# Altium schematic symbol library ICs.SchLib: 239 symbols (part 3 of 4)
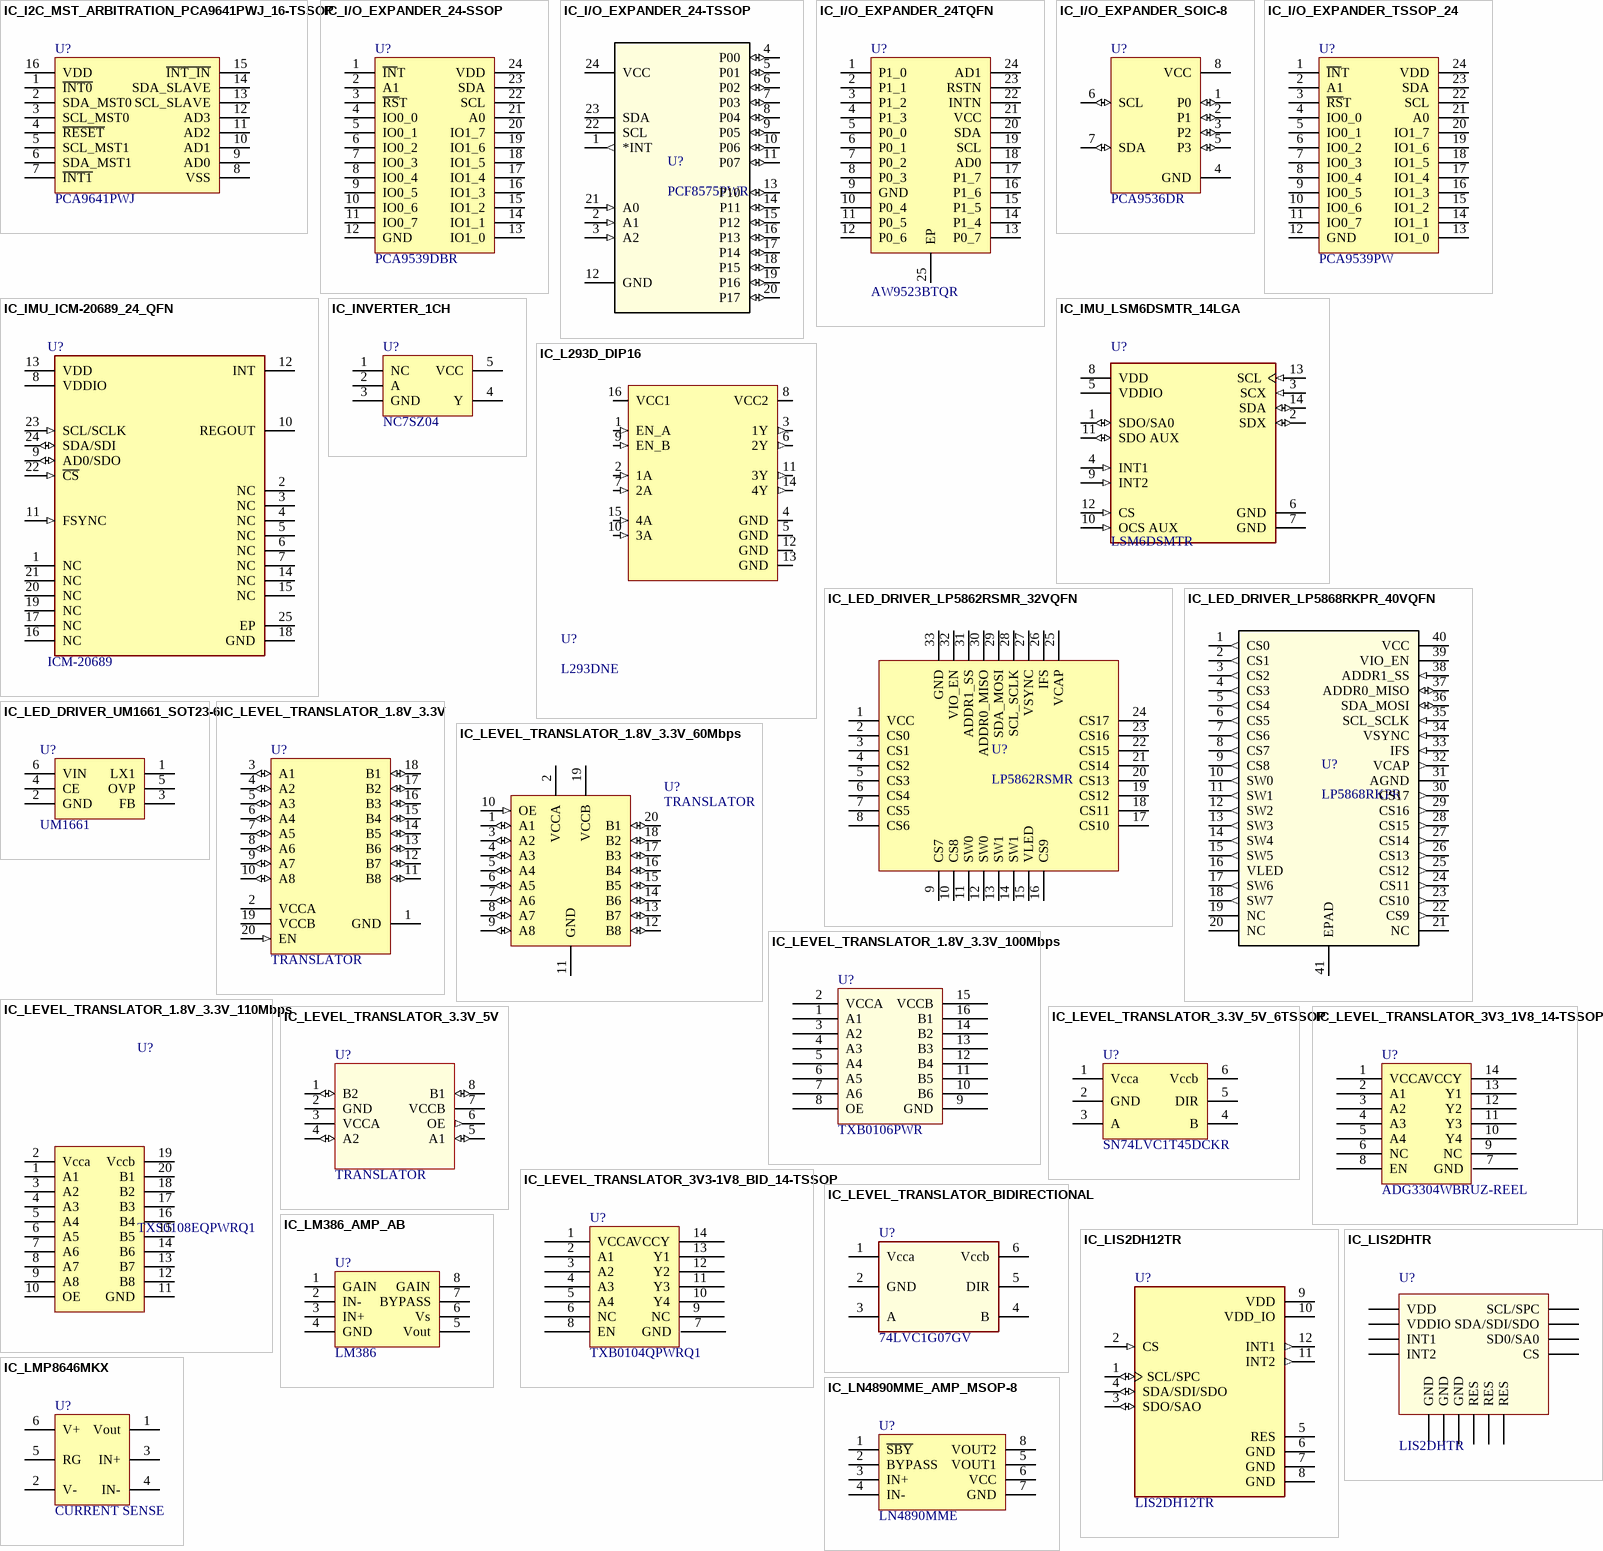
[diagram p11: symbols IC_I2C_MST_ARBITRATION_PCA9641PWJ_16-TSSOP to IC_LN4890MME_AMP_MSOP-8]

## IC_LEVEL_TRANSLATOR_1.8V_3.3V
designator U?, comment TRANSLATOR
IC TRNSLTR BIDIRECTIONAL 20TSSOP; Manufacturer: NXP USA Inc.; Manufacturer Part Number: NVT2008PW,118; Supplier 1: Digi-Key; Supplier Part Number 1: 568-5297-1-ND; Reel Stock: N/A; Last modified by: J.Jaramillo; Last modified date: 20240310; ComponentLink1Description: Digi-Key; ComponentLink1URL: https://www.digikey.com/products/en?keywords=568-5297-1-ND
footprint TSSOP_20_4.40MM (20210806/J-E.Pachon)
pins: 1 GND (power) "Ground", 2 VCCA (power) "low-voltage side reference supply  voltage for An", 3 A1 (io) "Input/output 1. Referenced to VCCA.", 4 A2 (io) "Input/output 2. Referenced to VCCA.", 5 A3 (io) "Input/output 3. Referenced to VCCA.", 6 A4 (io) "Input/output 4. Referenced to VCCA.", 7 A5 (io) "Input/output 5. Referenced to VCCA.", 8 A6 (io) "Input/output 6. Referenced to VCCA.", 9 A7 (io) "Input/output 7. Referenced to VCCA.", 10 A8 (io) "Input/output 8. Referenced to VCCA.", 11 B8 (io) "Input/output 8. Referenced to VCCB.", 12 B7 (io) "Input/output 7. Referenced to VCCB.", 13 B6 (io) "Input/output 6. Referenced to VCCB.", 14 B5 (io) "Input/output 5. Referenced to VCCB.", 15 B4 (io) "Input/output 4. Referenced to VCCB.", 16 B3 (io) "Input/output 3. Referenced to VCCB.", 17 B2 (io) "Input/output 2. Referenced to VCCB.", 18 B1 (io) "Input/output 1. Referenced to VCCB.", 19 VCCB (power) "high-voltage side reference  supply voltage for Bn", 20 EN (in) "switch enable input; connect to  VREFB and pull-up through a  high resistor"

## IC_LEVEL_TRANSLATOR_1.8V_3.3V_60Mbps
designator U?, comment TRANSLATOR
IC TRNSLTR BIDIRECTIONAL 20TSSOP; Manufacturer: Texas Instruments; Manufacturer Part Number: TXS0108EPWR; Supplier 1: Digi-Key; Supplier Part Number 1: 296-23011-1-ND; Reel Stock: N/A; Last modified by: J.Jaramillo; Last modified date: 20240310; ComponentLink1Description: Digi-Key; ComponentLink1URL: https://www.digikey.com/product-detail/en/texas-instruments/TXS0108EPWR/296-23011-1-ND/1775304
footprint TSSOP_20_4.40MM (20210806/J-E.Pachon)
pins: 1 A1 (io) "Input/output 1. Referenced to VCCA.", 2 VCCA (power) "A-port supply voltage. 1.1 V =< VCCA =< 3.6 V, VCCA =< VCCB.", 3 A2 (io) "Input/output 2. Referenced to VCCA.", 4 A3 (io) "Input/output 3. Referenced to VCCA.", 5 A4 (io) "Input/output 4. Referenced to VCCA.", 6 A5 (io) "Input/output 5. Referenced to VCCA.", 7 A6 (io) "Input/output 6. Referenced to VCCA.", 8 A7 (io) "Input/output 7. Referenced to VCCA.", 9 A8 (io) "Input/output 8. Referenced to VCCA.", 10 OE (in) "Output enable. Pull OE low to place all outputs in 3-state mode. Referenced to VCCA.", 11 GND (power) "Ground", 12 B8 (io) "Input/output 8. Referenced to VCCB.", 13 B7 (io) "Input/output 7. Referenced to VCCB.", 14 B6 (io) "Input/output 6. Referenced to VCCB.", 15 B5 (io) "Input/output 5. Referenced to VCCB.", 16 B4 (io) "Input/output 4. Referenced to VCCB.", 17 B3 (io) "Input/output 3. Referenced to VCCB.", 18 B2 (io) "Input/output 2. Referenced to VCCB.", 19 VCCB (power) "B-port supply voltage. 1.65 V =< VCCB =< 5.5 V.", 20 B1 (io) "Input/output 1. Referenced to VCCB."

## IC_LEVEL_TRANSLATOR_1.8V_3.3V_100Mbps
designator U?, comment TXB0106PWR
IC TRANSLATOR BIDIR 16TSSOP; Manufacturer: Texas Instruments; Manufacturer Part Number: TXB0106PWR; Supplier 1: Digi-Key; Supplier Part Number 1: 296-23759-1-ND; Reel Stock: N/A; Last modified by: J.Jaramillo; Last modified date: 20240310; ComponentLink1Description: Digi-Key; ComponentLink1URL: https://www.digikey.com/products/en?keywords=296-23759-1-ND
footprint TSSOP_16_4.40MM (/ 20190923 / C-D Viveros)
pins: 1 A1, 2 VCCA, 3 A2, 4 A3, 5 A4, 6 A5, 7 A6, 8 OE, 9 GND, 10 B6, 11 B5, 12 B4, 13 B3, 14 B2, 15 VCCB, 16 B1

## IC_LEVEL_TRANSLATOR_1.8V_3.3V_110Mbps
designator U?, comment TXS0108EQPWRQ1
IC TRANSLATOR BIDIR 20TSSOP; Manufacturer: Texas Instruments; Manufacturer Part Number: TXS0108EQPWRQ1; Supplier 1: Digi-Key; Supplier Part Number 1: 296-42401-1-ND; Reel Stock: N/A; Last modified by: J.Jaramillo; Last modified date: 20240310; ComponentLink1Description: Digi-Key; ComponentLink1URL: https://www.digikey.com/products/en?keywords=296-42401-1-ND
footprint TSSOP_20_4.40MM (20210806/J-E.Pachon)
pins: 1 A1, 2 Vcca, 3 A2, 4 A3, 5 A4, 6 A5, 7 A6, 8 A7, 9 A8, 10 OE, 11 GND, 12 B8, 13 B7, 14 B6, 15 B5, 16 B4, 17 B3, 18 B2, 19 Vccb, 20 B1

## IC_LEVEL_TRANSLATOR_3.3V_5V
designator U?, comment TRANSLATOR
IC TRNSLTR BIDIRECTIONAL US8; Manufacturer: Texas Instruments; Manufacturer Part Number: TXS0102DCUR; Supplier 1: Digi-Key; Supplier Part Number 1: 296-21931-1-ND; Reel Stock: N/A; Last modified by: J.Jaramillo; Last modified date: 20240310; ComponentLink1Description: Digi-Key; ComponentLink1URL: https://www.digikey.com/product-detail/en/texas-instruments/TXS0102DCUR/296-21931-1-ND/1629284
footprint VFSOP_8_2.30mm
pins: 1 B2 (io), 2 GND (power), 3 VCCA (power), 4 A2 (io), 5 A1 (io), 6 OE (out), 7 VCCB (power), 8 B1 (io)

## IC_LEVEL_TRANSLATOR_3.3V_5V_6TSSOP
designator U?, comment SN74LVC1T45DCKR
IC TRNSLTR BIDIRECTIONAL SC70-6; Manufacturer: Texas Instruments; Manufacturer Part Number: SN74LVC1T45DCKR; Supplier 1: Digi-Key; Supplier Part Number 1: 296-16844-1-ND; Reel Stock: N/A; Last modified by: J.Jaramillo; Last modified date: 20240310; ComponentLink1Description: Digi-Key; ComponentLink1URL: https://www.digikey.com/products/en?keywords=296-16844-1-ND
footprint SOT_ 363 (TSSOP-6, SC-88, SOT-363 / 20190225 / C-A.Serna.A)
pins: 1 Vcca, 2 GND, 3 A, 4 B, 5 DIR, 6 Vccb

## IC_LEVEL_TRANSLATOR_3V3-1V8_BID_14-TSSOP
designator U?, comment TXB0104QPWRQ1
IC TRNSLTR BIDIRECTIONAL 14TSSOP; Manufacturer: Texas Instruments; Manufacturer Part Number: TXB0104QPWRQ1; Supplier 1: Digi-Key; Supplier Part Number 1: 296-27760-1-ND; Reel Stock: N/A; Last modified by: J.Jaramillo; Last modified date: 20240310; ComponentLink1Description: Digi-Key; ComponentLink1URL: https://www.digikey.com/en/products/detail/texas-instruments/TXB0104QPWRQ1/2232941?s=N4IgTCBcDa4JwDYC0YDsqEAYkEYkDkAREAXQF8g
footprint TSSOP_14_4X4MM (/ 20210809 / C-A.Serna.A)
pins: 1 VCCA, 2 A1, 3 A2, 4 A3, 5 A4, 6 NC, 7 GND, 8 EN, 9 NC, 10 Y4, 11 Y3, 12 Y2, 13 Y1, 14 VCCY

## IC_LEVEL_TRANSLATOR_3V3_1V8_14-TSSOP
designator U?, comment ADG3304WBRUZ-REEL
IC TRNSLTR BIDIRECTIONAL 14TSSOP; Manufacturer: Analog Devices Inc.; Manufacturer Part Number: ADG3304WBRUZ-REEL; Supplier 1: Digi-Key; Supplier Part Number 1: 505-ADG3304WBRUZ-REELCT-ND; Reel Stock: N/A; Last modified by: J.Jaramillo; Last modified date: 20240310; ComponentLink1Description: Digi-Key; ComponentLink1URL: https://www.digikey.com/en/products/detail/analog-devices-inc/ADG3304WBRUZ-REEL/5887073?s=N4IgTCBcDaIIIBEDiBmFAGALAdQEICUBVALQFp8BRCgGRAF0BfIA
footprint TSSOP_14_4X4MM (/ 20210809 / C-A.Serna.A)
pins: 1 VCCA, 2 A1, 3 A2, 4 A3, 5 A4, 6 NC, 7 GND, 8 EN, 9 NC, 10 Y4, 11 Y3, 12 Y2, 13 Y1, 14 VCCY

## IC_LEVEL_TRANSLATOR_BIDIRECTIONAL
designator U?, comment 74LVC1G07GV
IC BUFFER NON-INVERT 5.5V 5TSOP; Manufacturer: Nexperia USA Inc.; Manufacturer Part Number: 74LVC1T45GW,125; Supplier 1: Digi-Key; Supplier Part Number 1: 1727-4560-1-ND; Reel Stock: N/A; Last modified by: J.Jaramillo; Last modified date: 20240310; ComponentLink1Description: Digi-Key; ComponentLink1URL: https://www.digikey.com/product-detail/en/nexperia-usa-inc/74LVC1T45GW-125/1727-4560-1-ND/2530939
footprint SOT_ 363 (TSSOP-6, SC-88, SOT-363 / 20190225 / C-A.Serna.A)
pins: 1 Vcca, 2 GND, 3 A, 4 B, 5 DIR, 6 Vccb

## IC_LIS2DH12TR
designator U?, comment LIS2DH12TR
ACCEL 2-16G I2C/SPI 12LGA; Manufacturer: STMicroelectronics; Manufacturer Part Number: LIS2DH12TR; Supplier 1: Digikey; Supplier Part Number 1: 497-14851-1-ND; Reel Stock: N/A; Last modified by: J.Jaramillo; Last modified date: 20240310; ComponentLink1Description: Digikey; ComponentLink1URL: https://www.digikey.com/en/products/detail/stmicroelectronics/LIS2DH12TR/4899892
footprint 12LGA_2X2MM (/20210319/J-E.Pachon)
pins: 1 SCL/SPC (io), 2 CS (in), 3 SDO/SAO (io), 4 SDA/SDI/SDO (io), 5 RES (power), 6 GND (power), 7 GND (power), 8 GND (power), 9 VDD (power), 10 VDD_IO (power), 11 INT2 (out), 12 INT1 (out)

## IC_LIS2DHTR
designator U?, comment LIS2DHTR
ACCEL 2-16G I2C/SPI 14LGA; Manufacturer: STMicroelectronics; Manufacturer Part Number: LIS2DHTR; Supplier 1: Digikey; Supplier Part Number 1: 497-13795-1-ND; Reel Stock: N/A; Last modified by: J.Jaramillo; Last modified date: 20240310; ComponentLink1Description: Digikey; ComponentLink1URL: https://www.digikey.com/en/products/detail/stmicroelectronics/LIS2DHTR/3945920?s=N4IgTCBcDaICwE4DsBaAjAZiQgrOlAcgCIgC6AvkA
footprint 14LGA_2X2MM (/20210809/J-E.Pachon)
pins: 1 SCL/SPC, 2 SDA/SDI/SDO, 3 SD0/SA0, 4 CS, 5 INT2, 6 INT1, 7 VDDIO, 8 VDD, 9 GND, 10 GND, 11 GND, 12 RES, 13 RES, 14 RES

## IC_LM386_AMP_AB
designator U?, comment LM386
IC AMP CLASS AB MONO 325MW 8SOIC; Manufacturer: Texas Instruments; Manufacturer Part Number: LM386MX-1/NOPB; Supplier 1: Digi-Key; Supplier Part Number 1: LM386MX-1/NOPBCT-ND; Reel Stock: N/A; Last modified by: J.Jaramillo; Last modified date: 20240310; ComponentLink1Description: Digi-Key; ComponentLink1URL: https://www.digikey.com/products/en?keywords=LM386MX-1%2FNOPBCT-ND
footprint SOIC_8_3.9mm (/ 20190225 / C-A.Serna.A)
pins: 1 GAIN, 2 IN-, 3 IN+, 4 GND, 5 Vout, 6 Vs, 7 BYPASS, 8 GAIN

## IC_LMP8646MKX
designator U?, comment CURRENT SENSE
IC CURR SENSE 1 CIRCUIT TSOT23-6; Manufacturer: Texas Instruments; Manufacturer Part Number: LMP8646MKX/NOPB; Supplier 1: Digi-Key; Supplier Part Number 1: 296-37396-1-ND; Reel Stock: N/A; Last modified by: J.Jaramillo; Last modified date: 20240310; ComponentLink1Description: Digi-Key; ComponentLink1URL: https://www.digikey.com/product-detail/en/texas-instruments/LMP8646MKX-NOPB/296-37396-1-ND/4758847
footprint SOT_23_6 (/ 20190225 / C-A.Serna.A)
pins: 1 Vout, 2 V-, 3 IN+, 4 IN-, 5 RG, 6 V+

## IC_LN4890MME_AMP_MSOP-8
designator U?, comment LN4890MME
1 1Wx1@8Ω Class AB MSOP-8 Audio Power OpAmps ROHS /; Manufacturer: Natlinear; Manufacturer Part Number: LN4890MME-G; Supplier 1: LCSC; Supplier Part Number 1: C236383; Reel Stock: N/A; Last modified by: J.Jaramillo; Last modified date: 20240310; ComponentLink1Description: LCSC; ComponentLink1URL: https://www.lcsc.com/product-detail/Audio-Power-OpAmps_NATLINEAR-LN4890MME-G_C236383.html
footprint MINISO-8_5.1X4MM (MSOP8/20210809/N-A.Potosi)
pins: 1 ~{SBY}, 2 BYPASS, 3 IN+, 4 IN-, 5 VOUT1, 6 VCC, 7 GND, 8 VOUT2

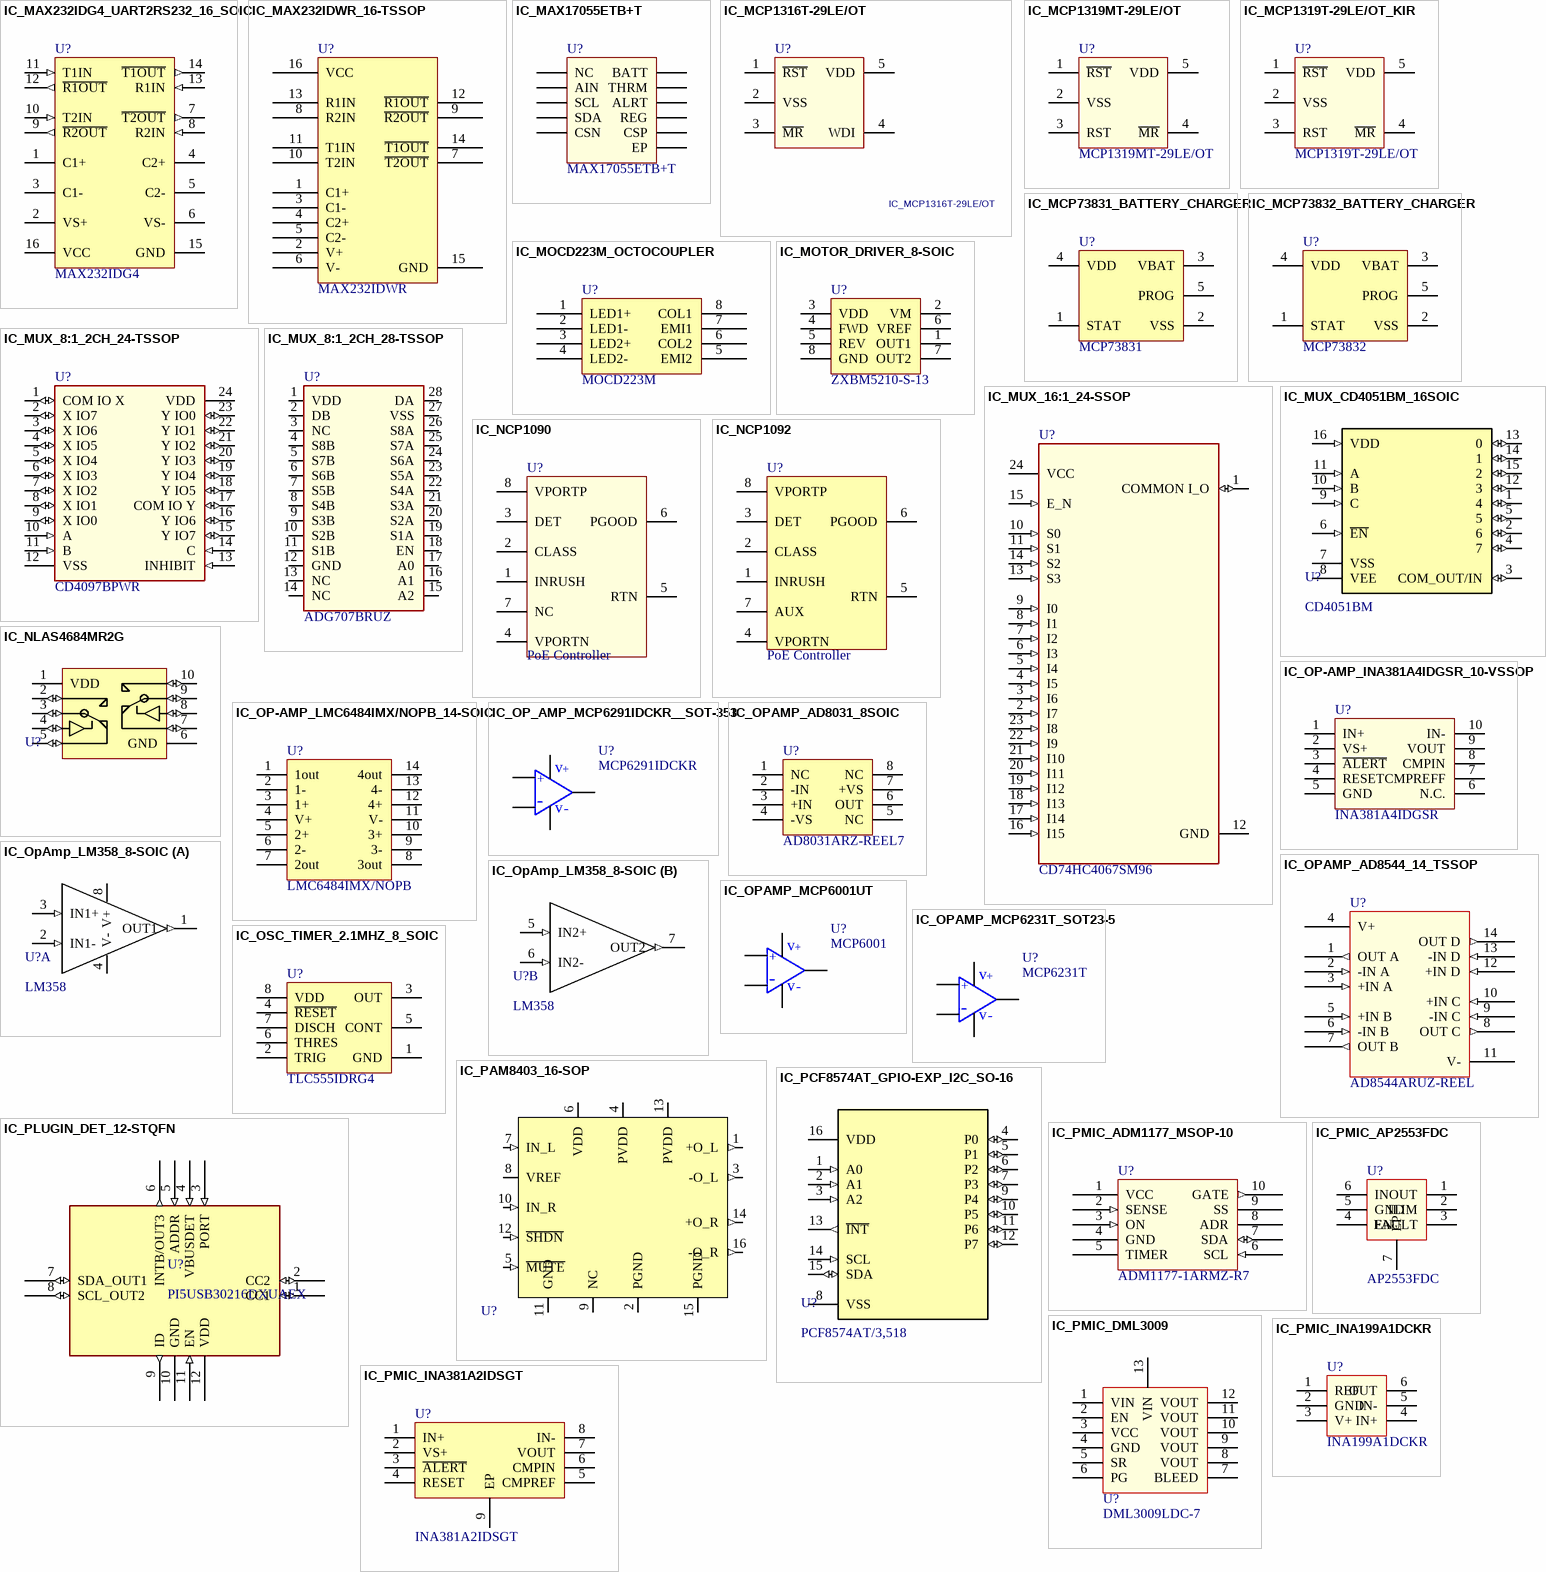
[diagram p5: symbols IC_MAX232IDG4_UART2RS232_16_SOIC to IC_PMIC_INA381A2IDSGT]

## IC_MAX232IDG4_UART2RS232_16_SOIC
designator U?, comment MAX232IDG4
MAX232 DUAL EIA-232 DRIVER AND R; Manufacturer: Texas Instruments; Manufacturer Part Number: MAX232IDG4; Supplier 1: Digi-Key; Supplier Part Number 1: 2156-MAX232IDG4-ND; Reel Stock: N/A; Last modified by: J.Jaramillo; Last modified date: 20240310; ComponentLink1Description: Digi-Key; ComponentLink1URL: https://www.digikey.com/en/products/detail/texas-instruments/MAX232IDG4/13486322
footprint SOIC_16_3.9MM (/20201210/M-C.Calderon)
pins: 1 C1+, 2 VS+ (power), 3 C1-, 4 C2+, 5 C2-, 6 VS- (power), 7 ~{T2OUT} (out), 8 R2IN (in), 9 ~{R2OUT} (out), 10 T2IN (in), 11 T1IN (in), 12 ~{R1OUT} (out), 13 R1IN (in), 14 ~{T1OUT} (out), 15 GND (power), 16 VCC (power)

## IC_MAX232IDWR_16-TSSOP
designator U?, comment MAX232IDWR
IC TRANSCEIVER FULL 2/2 16SOIC; Manufacturer: Texas Instruments; Manufacturer Part Number: MAX232IDWR; Supplier 1: Digi-Key; Supplier Part Number 1: 296-14621-1-ND; Reel Stock: N/A; Last modified by: J.Jaramillo; Last modified date: 20240310; ComponentLink1Description: Links; ComponentLink1URL: https://www.digikey.com/en/products/detail/texas-instruments/MAX232IDWR/555692
footprint TSSOP_16_4.40MM (/ 20190923 / C-D Viveros)
pins: 1 C1+, 2 V+, 3 C1-, 4 C2+, 5 C2-, 6 V-, 7 ~{T2OUT}, 8 R2IN, 9 ~{R2OUT}, 10 T2IN, 11 T1IN, 12 ~{R1OUT}, 13 R1IN, 14 ~{T1OUT}, 15 GND, 16 VCC

## IC_MAX17055ETB+T
designator U?, comment MAX17055ETB+T
IC FUEL GAUGE MODELGAUGE 10TDFN; Manufacturer: Maxim Integrated; Manufacturer Part Number: MAX17055ETB+T; Supplier 1: Digi-Key; Supplier Part Number 1: MAX17055ETB+TCT-ND; Reel Stock: N/A; Last modified by: J.Jaramillo; Last modified date: 20240310; ComponentLink1Description: Digikey; ComponentLink1URL: https://www.digikey.com/product-detail/en/maxim-integrated/MAX17055ETB-T/MAX17055ETB-TCT-ND/7200800
footprint TDFN-10_2.5X2.0MM_EP (10-TDFN/20201001/J-E.Pachon)
pins: 1 NC, 2 AIN, 3 SCL, 4 SDA, 5 CSN, 6 CSP, 7 REG, 8 ALRT, 9 THRM, 10 BATT, 11 EP

## IC_MCP1316T-29LE/OT
designator U?
IC SUPERVISOR 2.9V SOT23-5; Manufacturer: Microchip Technology; Supplier Part Number 1: MCP1316T-29LE/OTCT-ND; Manufacturer Part Number: MCP1316T-29LE/OT; Supplier 1: Digi-key; ComponentLink1URL: https://www.digikey.com/product-detail/en/microchip-technology/MCP1316T-29LE-OT/MCP1316T-29LE-OTCT-ND/1979879; ComponentLink1Description: Digi-key; ComponentLink1URL: https://www.digikey.com/products/en?keywords=MCP1316T-29LE%2FOTCT-ND; Last modified date: 20240310; Last modified by: J.Jaramillo; Reel Stock: N/A
footprint SOT_753 (SOT-23-5, SC-74A / 20190225 / C-A.Serna.A)
pins: 1 ~{RST}, 2 VSS, 3 ~{MR}, 4 WDI, 5 VDD

## IC_MCP1319MT-29LE/OT
designator U?, comment MCP1319MT-29LE/OT
IC SUPERVISOR 1 CHANNEL SOT23-5; Manufacturer: Microchip Technology; Manufacturer Part Number: MCP1319MT-29LE/OT; Supplier 1: Digi-Key; Supplier Part Number 1: MCP1319MT-29LE/OTCT-ND; Reel Stock: N/A; Last modified by: J.Jaramillo; Last modified date: 20240310; ComponentLink1Description: Digi-Key; ComponentLink1URL: https://www.digikey.com/en/products/detail/microchip-technology/MCP1319MT-29LE-OT/964270
footprint SOT_753 (SOT-23-5, SC-74A / 20190225 / C-A.Serna.A)
pins: 1 ~{RST}, 2 VSS, 3 RST, 4 ~{MR}, 5 VDD

## IC_MCP1319T-29LE/OT_KIR
designator U?, comment MCP1319T-29LE/OT
IC SUPERVISOR 2.9V SOT23-5; Manufacturer: Microchip Technology; Manufacturer Part Number: MCP1319T-29LE/OT; Supplier 1: Digi-Key; Supplier Part Number 1: MCP1319T-29LE/OTCT-ND; Reel Stock: N/A; Last modified by: J.Jaramillo; Last modified date: 20240310; ComponentLink1Description: Digi-Key; ComponentLink1URL: https://www.digikey.com/product-detail/en/microchip-technology/MCP1319T-29LE-OT/MCP1319T-29LE-OTCT-ND/8345669
footprint SOT_753 (SOT-23-5, SC-74A / 20190225 / C-A.Serna.A)
pins: 1 ~{RST}, 2 VSS, 3 RST, 4 ~{MR}, 5 VDD

## IC_MCP73831_BATTERY_CHARGER
designator U?, comment MCP73831
IC CONTROLLR LI-ION 4.2V SOT23-5; Manufacturer: Microchip Technology; Manufacturer Part Number: MCP73831T-2ACI/OT; Supplier 1: Digi-Key; Supplier Part Number 1: MCP73831T-2ACI/OTCT-ND; Reel Stock: N/A; Last modified by: J.Jaramillo; Last modified date: 20240310; ComponentLink1Description: Digi-Key; ComponentLink1URL: https://www.digikey.com/product-detail/en/microchip-technology/MCP73831T-2ACI-OT/MCP73831T-2ACI-OTCT-ND/1979802
footprint SOT_753 (SOT-23-5, SC-74A / 20190225 / C-A.Serna.A)
pins: 1 STAT, 2 VSS, 3 VBAT, 4 VDD, 5 PROG

## IC_MCP73832_BATTERY_CHARGER
designator U?, comment MCP73832
IC LI-ION/LI-POLY CTRLR SOT23-5; Manufacturer: Microchip Technology; Manufacturer Part Number: MCP73832T-2ACI/OT; Supplier 1: Digi-Key; Supplier Part Number 1: MCP73832T-2ACI/OTCT-ND; Reel Stock: N/A; Last modified by: J.Jaramillo; Last modified date: 20240310; ComponentLink1Description: Digi-Key; ComponentLink1URL: https://www.digikey.com/product-detail/en/microchip-technology/MCP73832T-2ACI-OT/MCP73832T-2ACI-OTCT-ND/1979805
footprint SOT_753 (SOT-23-5, SC-74A / 20190225 / C-A.Serna.A)
pins: 1 STAT, 2 VSS, 3 VBAT, 4 VDD, 5 PROG

## IC_MOCD223M_OCTOCOUPLER
designator U?, comment MOCD223M
OPTOISOLTR 2.5KV 2CH DARL 8SOIC; Manufacturer: onsemi; Manufacturer Part Number: MOCD223M; Supplier 1: Digi-Key; Supplier Part Number 1: MOCD223M-ND; Reel Stock: N/A; Last modified by: J.Jaramillo; Last modified date: 20240310; ComponentLink1Description: Digi-Key; ComponentLink1URL: https://www.digikey.com/en/products/detail/onsemi/MOCD223M/281252?s=N4IgTCBcDaILIHkDCARMYDMcC0A5FIAugL5A
footprint SOIC_8_3.9mm (/ 20190225 / C-A.Serna.A)
pins: 1 LED1+, 2 LED1-, 3 LED2+, 4 LED2-, 5 EMI2, 6 COL2, 7 EMI1, 8 COL1

## IC_MOTOR_DRIVER_8-SOIC
designator U?, comment ZXBM5210-S-13
IC MOTOR DRIVER 3V-18V 8SOIC; Manufacturer: Diodes Incorporated; Manufacturer Part Number: ZXBM5210-S-13; Supplier 1: Digikey; Supplier Part Number 1: ZXBM5210-S-13DICT-ND; Reel Stock: N/A; Last modified by: J.Jaramillo; Last modified date: 20240310; ComponentLink1Description: Digikey; ComponentLink1URL: https://www.digikey.com/en/products/detail/diodes-incorporated/ZXBM5210-S-13/4567774?s=N4IgTCBcDaIFoA0BCBZArGAjABgLQGVdMBmAEQEkBhAFVwDlSQBdAXyA
footprint SOIC_8_3.9mm (/ 20190225 / C-A.Serna.A)
pins: 1 OUT1 (power), 2 VM (power), 3 VDD (power), 4 FWD (power), 5 REV (power), 6 VREF (power), 7 OUT2 (power), 8 GND (power)

## IC_MUX_8:1_2CH_24-TSSOP
designator U?, comment CD4097BPWR
IC MUX 8:1 240 OHM 24TSSOP; Manufacturer: Texas Instruments; Manufacturer Part Number: CD4097BPWR; Supplier 1: Digi-Key; Supplier Part Number 1: 296-42653-1-ND; Reel Stock: N/A; Last modified by: J.Jaramillo; Last modified date: 20240310; ComponentLink1Description: Digi-Key; ComponentLink1URL: https://www.digikey.com/product-detail/en/texas-instruments/CD4097BPWR/296-42653-1-ND/5455918
footprint TSSOP_24_4.40MM (24-TSSOP /20200212/ N-A.Potosi)
pins: 1 COM IO X (io), 2 X IO7 (io), 3 X IO6 (io), 4 X IO5 (io), 5 X IO4 (io), 6 X IO3 (io), 7 X IO2 (io), 8 X IO1 (io), 9 X IO0 (io), 10 A (in), 11 B (in), 12 VSS, 13 INHIBIT (in), 14 C (in), 15 Y IO7 (io), 16 Y IO6 (io), 17 COM IO Y (io), 18 Y IO5 (io), 19 Y IO4 (io), 20 Y IO3 (io), 21 Y IO2 (io), 22 Y IO1 (io), 23 Y IO0 (io), 24 VDD

## IC_MUX_8:1_2CH_28-TSSOP
designator U?, comment ADG707BRUZ
IC MULTIPLEXER DUAL 8X1 28TSSOP; Manufacturer: Analog Devices Inc.; Manufacturer Part Number: ADG707BRUZ; Supplier 1: Digi-Key; Supplier Part Number 1: ADG707BRUZ-ND; Reel Stock: N/A; Last modified by: J.Jaramillo; Last modified date: 20240310; ComponentLink1Description: Digi-Key; ComponentLink1URL: https://www.digikey.com/product-detail/en/analog-devices-inc/ADG707BRUZ/ADG707BRUZ-ND/997651
footprint TSSOP_28_4.40MM (28-TSSOP 4.40mm,MO-153 /20210809/ N-A.Potosi)
pins: 1 VDD (power), 2 DB, 3 NC, 4 S8B, 5 S7B, 6 S6B, 7 S5B, 8 S4B, 9 S3B, 10 S2B, 11 S1B, 12 GND, 13 NC, 14 NC, 15 A2, 16 A1, 17 A0, 18 EN, 19 S1A, 20 S2A, 21 S3A, 22 S4A, 23 S5A, 24 S6A, 25 S7A, 26 S8A, 27 VSS (power), 28 DA

## IC_MUX_16:1_24-SSOP
designator U?, comment CD74HC4067SM96
IC MUX/DEMUX 1X16 24SSOP; Manufacturer: Texas Instruments; Manufacturer Part Number: CD74HC4067SM96; Supplier 1: Digi-Key; Supplier Part Number 1: 296-9226-1-ND; Reel Stock: N/A; Last modified by: J.Jaramillo; Last modified date: 20240310; ComponentLink1Description: Digi-Key; ComponentLink1URL: https://www.digikey.com/en/products/detail/texas-instruments/CD74HC4067SM96/390310
footprint SSOP_24_5.30MM (/20210702/M-C.Calderon)
pins: 1 COMMON I_O (io), 2 I7 (in), 3 I6 (in), 4 I5 (in), 5 I4 (in), 6 I3 (in), 7 I2 (in), 8 I1 (in), 9 I0 (in), 10 S0 (in), 11 S1 (in), 12 GND (power), 13 S3 (in), 14 S2 (in), 15 E_N (in), 16 I15 (in), 17 I14 (in), 18 I13 (in), 19 I12 (in), 20 I11 (in), 21 I10 (in), 22 I9 (in), 23 I8 (in), 24 VCC (power)

## IC_MUX_CD4051BM_16SOIC
designator U?, comment CD4051BM
IC MUX 8:1 240OHM 16SOIC; Manufacturer: Texas Instruments; Manufacturer Part Number: CD4051BM; Supplier 1: Digi-Key; Supplier Part Number 1: 296-25947-5-ND; Reel Stock: N/A; Last modified by: J.Jaramillo; Last modified date: 20240527; ComponentLink1Description: Digi-Key; ComponentLink1URL: https://www.digikey.com/en/products/detail/texas-instruments/CD4051BM/1691147
footprint SOIC_16_3.9MM (/20201210/M-C.Calderon)
pins: 1 4 (io), 2 6 (io), 3 COM_OUT/IN (io), 4 7 (io), 5 (io), 6 ~{EN} (in), 7 VSS (power), 8 VEE (power), 9 C (in), 10 B (in), 11 A (in), 12 3 (io), 13 0 (io), 14 1 (io), 15 2 (io), 16 VDD (in)

## IC_NCP1090
designator U?, comment PoE Controller
IC POE CNTRL 1 CHANNEL 8SOIC; Manufacturer: ON Semiconductor; Manufacturer Part Number: NCP1090DRG; Supplier 1: Digi-Key; Supplier Part Number 1: NCP1090DRGOSCT-ND; Reel Stock: N/A; Last modified by: J.Jaramillo; Last modified date: 20240310; ComponentLink1Description: Digi-Key; ComponentLink1URL: https://www.digikey.com/en/products/detail/onsemi/NCP1090DRG/2482284
footprint SOIC_8_3.9mm
pins: 1 INRUSH, 2 CLASS, 3 DET, 4 VPORTN, 5 RTN, 6 PGOOD, 7 NC, 8 VPORTP

## IC_NCP1092
designator U?, comment PoE Controller
IC CTRLR PD 802.3AF 8SOIC; Manufacturer: ON Semiconductor; Manufacturer Part Number: NCP1092DG; Supplier 1: Digi-Key; Supplier Part Number 1: NCP1092DGOS-ND; Reel Stock: N/A; Last modified by: J.Jaramillo; Last modified date: 20240310; ComponentLink1Description: Digi-Key; ComponentLink1URL: https://www.digikey.com/products/en?keywords=NCP1092DGOS-ND
footprint SOIC_8_3.9mm
pins: 1 INRUSH, 2 CLASS, 3 DET, 4 VPORTN, 5 RTN, 6 PGOOD, 7 AUX, 8 VPORTP

## IC_NLAS4684MR2G
designator U?, comment IC SWITCH DUAL SPDT MICRO10  (value not drawn)
Manufacturer: onsemi; Manufacturer Part Number: NLAS4684MR2G; Alternate: DI; Supplier 1: Digi-Key; Supplier Part Number 1: NLAS4684MR2GOSCT-ND; Reel Stock: N/A; Last modified by: J.Jaramillo; Last modified date: 20240310; ComponentLink1Description: Digi-Key; ComponentLink1URL: https://www.digikey.com/en/products/detail/onsemi/NLAS4684MR2G/1484442; ComponentLink2Description: Datasheet; ComponentLink2URL: https://www.onsemi.com/pdf/datasheet/nlas4684-d.pdf
footprint MSOP-10_3.0MM (20221118/J-A.Sepulveda)
pins: 1 VDD, 2 NO1 (io), 3 COM1 (io), 4 IN1 (io), 5 NC1 (io), 6 GND, 7 NC2 (io), 8 IN2 (io), 9 COM2 (io), 10 NO2 (io)

## IC_OP-AMP_INA381A4IDGSR_10-VSSOP
designator U?, comment INA381A4IDGSR
Current Sense Regulator High/Low-Side  10-VSSOP; Manufacturer: Texas Instruments; Manufacturer Part Number: INA381A4IDGSR; Supplier 1: Digi-Key; Supplier Part Number 1: 296-INA381A4IDGSRCT-ND; Reel Stock: N/A; Last modified by: J.Jaramillo; Last modified date: 20240310; ComponentLink3Description: Digi-Key; ComponentLink3URL: https://www.digikey.com/en/products/detail/texas-instruments/INA381A4IDGSR/10715340
footprint MSOP-10_3.0MM (20210809/V-A.Patino)
pins: 1 IN+, 2 VS+, 3 ~{ALERT}, 4 RESET, 5 GND, 6 N.C., 7 CMPREFF, 8 CMPIN, 9 VOUT, 10 IN-

## IC_OP-AMP_LMC6484IMX/NOPB_14-SOIC
designator U?, comment LMC6484IMX/NOPB
IC CMOS 4 CIRCUIT 14SOIC; Manufacturer: Texas Instruments; Supplier 1: Digi-key; Supplier Part Number 1: LMC6484IMX/NOPBCT-ND; Reel Stock: N/A; Last modified by: J.Jaramillo; Last modified date: 20240310; ComponentLink1Description: Digi-key; ComponentLink1URL: https://www.digikey.com/en/products/detail/texas-instruments/LMC6484IMX-NOPB/334869?s=N4IgTCBcDaIDIFkDCA2ALADjQSQQDQHoA5AeQAUAhAFQCUBaIgERAF0BfIA; Manufacturer Part Number: LMC6484IMX/NOPB
footprint SOIC_14_3.9mm (SO_14 / 20190225 / C-A.Serna.A)
pins: 1 1out (power), 2 1- (power), 3 1+ (power), 4 V+ (power), 5 2+ (power), 6 2- (power), 7 2out (power), 8 3out (power), 9 3- (power), 10 3+ (power), 11 V- (power), 12 4+ (power), 13 4- (power), 14 4out (power)

## IC_OP_AMP_MCP6291IDCKR__SOT-353
designator U?, comment MCP6291IDCKR
IC OPAMP GP 1 CIRCUIT SC70-5; Manufacturer: Texas Instruments; Manufacturer Part Number: MCP6291IDCKR; Supplier 1: Digi-Key; Supplier Part Number 1: 296-53469-1-ND; Reel Stock: N/A; Last modified by: J.Jaramillo; Last modified date: 20240310; ComponentLink1Description: Digi-Key; ComponentLink1URL: https://www.digikey.com/en/products/detail/texas-instruments/MCP6291IDCKR/10060446
footprint SC_70_5 (SC-70-5, TSSOP-5, SOT-353 / 20190225 / C-A.Serna.A)
pins: 1 IN+ (power), 2 VSS (power), 3 IN- (power), 4 OUT (power), 5 VDD (power)
text: v; +; -

## IC_OPAMP_AD8031_8SOIC
designator U?, comment AD8031ARZ-REEL7
Manufacturer: Analog Devices Inc.; Last modified by: J.Jaramillo; Last modified date: 20240310; Reel Stock: N/A; Supplier 1: Digi-Key; Manufacturer Part Number: AD8031ARZ-REEL7; Supplier Part Number 1: AD8031ARZ-REEL7CT-ND; ComponentLink2Description: Digi-Key; ComponentLink2URL: https://www.digikey.com/en/products/detail/analog-devices-inc/AD8031ARZ-REEL7/620546?s=N4IgTCBcDaIIIBEAcAGAzARjgJQFoFpsBRIgGQHYQBdAXyA
footprint SOIC_8_3.9mm (/ 20190225 / C-A.Serna.A)
pins: 1 NC (power), 2 -IN (power), 3 +IN (power), 4 -VS (power), 5 NC (power), 6 OUT (power), 7 +VS (power), 8 NC (power)

## IC_OPAMP_AD8544_14_TSSOP
designator U?, comment AD8544ARUZ-REEL
IC OPAMP GP 4 CIRCUIT 14TSSOP; Manufacturer: Analog Devices Inc.; Manufacturer Part Number: AD8544ARUZ-REEL; Supplier 1: Digi-Key; Supplier Part Number 1: AD8544ARUZ-REELCT-ND; Reel Stock: N/A; Last modified by: J.Jaramillo; Last modified date: 20240310; ComponentLink2Description: Digi-Key; ComponentLink2URL: https://www.digikey.com/en/products/detail/analog-devices-inc/AD8544ARUZ-REEL/654055
footprint TSSOP_14_4X4MM (/ 20210809 / C-A.Serna.A)
pins: 1 OUT A (out), 2 -IN A (in), 3 +IN A (in), 4 V+, 5 +IN B (in), 6 -IN B (in), 7 OUT B (out), 8 OUT C (out), 9 -IN C (in), 10 +IN C (in), 11 V-, 12 +IN D (in), 13 -IN D (in), 14 OUT D (out)

## IC_OpAmp_LM358_8-SOIC
designator U?, comment LM358
IC OPAMP GP 2 CIRCUIT 8SOIC; Manufacturer: Texas Instruments; Manufacturer Part Number: LM358BAIDR; Supplier 1: Digi-Key; Supplier Part Number 1: 296-LM358BAIDRCT-ND; Reel Stock: N/A; Last modified by: J.Jaramillo; Last modified date: 20240530; ComponentLink1Description: Digi-Key; ComponentLink1URL: https://www.digikey.com/en/products/detail/texas-instruments/LM358BAIDR/10715497?s=N4IgTCBcDaIDIFkDMBWAHAIQIIEkAiASiALoC%2BQA
footprint SOIC_8 (/ 20190225 / C-A.Serna.A)
part A pins: 1 OUT1 (out), 2 IN1- (in), 3 IN1+ (in), 4 V- (power), 8 V+ (power)
part B pins: 5 IN2+ (in), 6 IN2- (in), 7 OUT2 (out)

## IC_OPAMP_MCP6001UT
designator U?, comment MCP6001
IC OPAMP GP 1 CIRCUIT SOT23-5; Manufacturer: Microchip Technology; Manufacturer Part Number: MCP6001UT-I/OT; Supplier 1: Digi-Key; Supplier Part Number 1: MCP6001UT-I/OTCT-ND; Reel Stock: N/A; Last modified by: J.Jaramillo; Last modified date: 20240310; ComponentLink1Description: Digi-Key; ComponentLink1URL: https://www.digikey.com/products/en?keywords=MCP6001UT-I%2FOTCT-ND
footprint SOT_753 (SOT-23-5, SC-74A / 20190225 / C-A.Serna.A)
pins: 1 IN+ (power), 2 VSS (power), 3 IN- (power), 4 OUT (power), 5 VDD (power)
text: v; +; -

## IC_OPAMP_MCP6231T_SOT23-5
designator U?, comment MCP6231T
IC OPAMP GP 1 CIRCUIT SOT23-5; Manufacturer: Microchip Technology; Manufacturer Part Number: MCP6231T-E/OT; Supplier 1: Digi-Key; Supplier Part Number 1: MCP6231T-E/OTCT-ND; Reel Stock: N/A; Last modified by: J.Jaramillo; Last modified date: 20240310; ComponentLink1Description: Digi-Key; ComponentLink1URL: https://www.digikey.com/products/en?keywords=MCP6231T-E%2FOTCT-ND
footprint SOT_753 (SOT-23-5, SC-74A / 20190225 / C-A.Serna.A)
pins: 1 OUT (power), 2 VSS (power), 3 IN+ (power), 4 IN- (power), 5 VDD (power)
text: v; +; -

## IC_OSC_TIMER_2.1MHZ_8_SOIC
designator U?, comment TLC555IDRG4
IC OSC SGL TIMER 2.1MHZ 8-SOIC; Manufacturer: Texas Instruments; Manufacturer Part Number: TLC555IDRG4; Supplier 1: Digi-Key; Supplier Part Number 1: 296-52779-1-ND; Reel Stock: N/A; Last modified by: J.Jaramillo; Last modified date: 20240310; ComponentLink1Description: Digi-Key; ComponentLink1URL: https://www.digikey.com/en/products/detail/texas-instruments/TLC555IDRG4/1676500?s=N4IgTCBcDa4JwDYC0BWMB2dckEYkDkAREAXQF8g
footprint SOIC_8_3.9mm (/ 20190225 / C-A.Serna.A)
pins: 1 GND, 2 TRIG, 3 OUT, 4 ~{RESET}, 5 CONT, 6 THRES, 7 DISCH, 8 VDD

## IC_PAM8403_16-SOP
designator U?, comment PAM8403DR-H  (value not drawn)
IC AMP CLASS D STEREO 3W 16SOP; Manufacturer: Diodes Incorporated; Manufacturer Part Number: PAM8403DR-H; Supplier 1: Digi-Key; Supplier Part Number 1: PAM8403DR-HDICT-ND; Reel Stock: N/A; Last modified by: J.Jaramillo; Last modified date: 20240329; ComponentLink1Description: Digi-Key; ComponentLink1URL: https://www.digikey.com/en/products/detail/diodes-incorporated/PAM8403DR-H/4033372
footprint SOP-16_3.9X10MM (/ 20240315 / J.Jaramillo)
pins: 1 +O_L (out), 2 PGND, 3 -O_L (out), 4 PVDD (power), 5 ~{MUTE} (in), 6 VDD (power), 7 IN_L (in), 8 VREF (power), 9 NC, 10 IN_R (in), 11 GND (power), 12 ~{SHDN} (in), 13 PVDD (power), 14 +O_R (out), 15 PGND, 16 -O_R (out)

## IC_PCF8574AT_GPIO-EXP_I2C_SO-16
designator U?, comment PCF8574AT/3,518
IC XPNDR 100KHZ I2C 16SO; Manufacturer: NXP USA Inc.; Manufacturer Part Number: PCF8574AT/3,518; Supplier 1: Digi-Key; Supplier Part Number 1: 568-1074-1-ND; Reel Stock: N/A; Last modified by: J.Jaramillo; Last modified date: 20240527; ComponentLink1Description: Digi-Key; ComponentLink1URL: https://www.digikey.com/en/products/detail/nxp-usa-inc/PCF8574AT-3-518/735688
footprint 16-SOIC_7.50mm (20240529 / J.Jaramillo)
pins: 1 A0 (in), 2 A1 (in), 3 A2 (in), 4 P0 (io), 5 P1 (io), 6 P2 (io), 7 P3 (io), 8 VSS, 9 P4 (io), 10 P5 (io), 11 P6 (io), 12 P7 (io), 13 ~{INT} (out), 14 SCL (in), 15 SDA (io), 16 VDD (power)

## IC_PLUGIN_DET_12-STQFN
designator U?, comment PI5USB30216DXUAEX
IC PLUG IN DET TYPE C 12X2QFN; Manufacturer: Diodes Incorporated; Reel Stock: N/A; Last modified by: J.Jaramillo; Last modified date: 20240310; Supplier 1: Digi-Key; Manufacturer Part Number: PI5USB30216DXUAEX; Supplier Part Number 1: PI5USB30216DXUAEXCT-ND; ComponentLink1Description: Digi-Key; ComponentLink1URL: https://www.digikey.com/en/products/detail/diodes-incorporated/PI5USB30216DXUAEX/6202103
footprint 12-STQFN_1.6X1.6MM (12X2 QFN/20230808/N-A.Potosi)
pins: 1 CC1 (io), 2 CC2 (io), 3 PORT (in), 4 VBUSDET (in), 5 ADDR (in), 6 INTB/OUT3 (out), 7 SDA_OUT1 (io), 8 SCL_OUT2 (io), 9 ID (out), 10 GND, 11 EN (in), 12 VDD

## IC_PMIC_ADM1177_MSOP-10
designator U?, comment ADM1177-1ARMZ-R7
IC HOT SWAP CTRLR GP 10MSOP; Manufacturer: Analog Devices Inc.; Manufacturer Part Number: ADM1177-1ARMZ-R7; Supplier 1: Digi-Key; Supplier Part Number 1: ADM1177-1ARMZ-R7CT-ND; Reel Stock: N/A; Last modified by: J.Jaramillo; Last modified date: 20240310; ComponentLink1Description: Digi-Key; ComponentLink1URL: https://www.digikey.com/en/products/detail/analog-devices-inc/ADM1177-1ARMZ-R7/1200209?s=N4IgTCBcDaIIIBECyBGFB2dBaFcBKSAWlnuiALoC%2BQA
footprint MSOP-10_3.0MM (20210809/V-A.Patino)
pins: 1 VCC (power), 2 SENSE (in), 3 ON (in), 4 GND (power), 5 TIMER, 6 SCL (in), 7 SDA (io), 8 ADR, 9 SS, 10 GATE (out)

## IC_PMIC_AP2553FDC
designator U?, comment AP2553FDC
IC PD SW CURR LIMIT 6DFN; Manufacturer: Diodes Incorporated; Manufacturer Part Number: AP2553FDC-7; Reel Stock: N/A; Last modified by: J.Jaramillo; Last modified date: 20240310; ComponentLink1Description: Digi-key; ComponentLink1URL: https://www.digikey.com/product-detail/en/diodes-incorporated/AP2553FDC-7/AP2553FDC-7DICT-ND/3882114; Supplier 1: Digi-Key; Supplier Part Number 1: AP2553FDC-7DICT-ND
footprint UDFN_6_2X2MM_EP (20190516/ V-A.Patino)
pins: 1 OUT, 2 ILIM, 3 FAULT, 4 EN, 5 GND, 6 IN, 7 EP

## IC_PMIC_DML3009
designator U?, comment DML3009LDC-7
20A LOAD SWITCH V-DFN3030-12; Manufacturer: Diodes Incorporated; Manufacturer Part Number: DML3009LDC-7; Reel Stock: N/A; Last modified by: J.Jaramillo; Last modified date: 20240310; Supplier 1: Digi-Key; Supplier Part Number 1: DML3009LDC-7DICT-ND; ComponentLink1Description: Digi-Key; ComponentLink1URL: https://www.digikey.com/product-detail/en/diodes-incorporated/DML3009LDC-7/DML3009LDC-7DICT-ND/7900084
footprint V-DFN3030-12_EP_3X3MM (12-WFDFN / 20210809 / J-E.Pachon)
pins: 1 VIN, 2 EN, 3 VCC, 4 GND, 5 SR, 6 PG, 7 BLEED, 8 VOUT, 9 VOUT, 10 VOUT, 11 VOUT, 12 VOUT, 13 VIN

## IC_PMIC_INA199A1DCKR
designator U?, comment INA199A1DCKR
IC OPAMP CURR SENSE 14KHZ SC70-6; Manufacturer: Texas Instruments; Manufacturer Part Number: INA199A1DCKR; Reel Stock: N/A; Last modified by: J.Jaramillo; Last modified date: 20240310; ComponentLink1Description: Digi-key; ComponentLink1URL: https://www.digikey.com/product-detail/en/texas-instruments/INA199A1DCKR/296-27329-1-ND/2279290; Supplier 1: Digi-Key; Supplier Part Number 1: 296-27329-1-ND
footprint SOT_ 363 (TSSOP-6, SC-88, SOT-363 / 20190225 / C-A.Serna.A)
pins: 1 REF, 2 GND, 3 V+, 4 IN+, 5 IN-, 6 OUT

## IC_PMIC_INA381A2IDSGT
designator U?, comment INA381A2IDSGT
CURRENT SENSE AMPLIFIER WITH INT; Manufacturer: Texas Instruments; Manufacturer Part Number: INA381A2IDSGT; Reel Stock: N/A; Last modified by: J.Jaramillo; Last modified date: 20240310; ComponentLink1Description: Digi-key; ComponentLink1URL: https://www.digikey.com/en/products/detail/texas-instruments/INA381A2IDSGT/9091875; Supplier 1: Digi-Key; Supplier Part Number 1: 296-49078-1-ND
footprint WSON_8_2x2MM_EP (8-WFDFN_EP/20220527/V-A.Patino)
pins: 1 IN+, 2 VS+, 3 ~{ALERT}, 4 RESET, 5 CMPREF, 6 CMPIN, 7 VOUT, 8 IN-, 9 EP

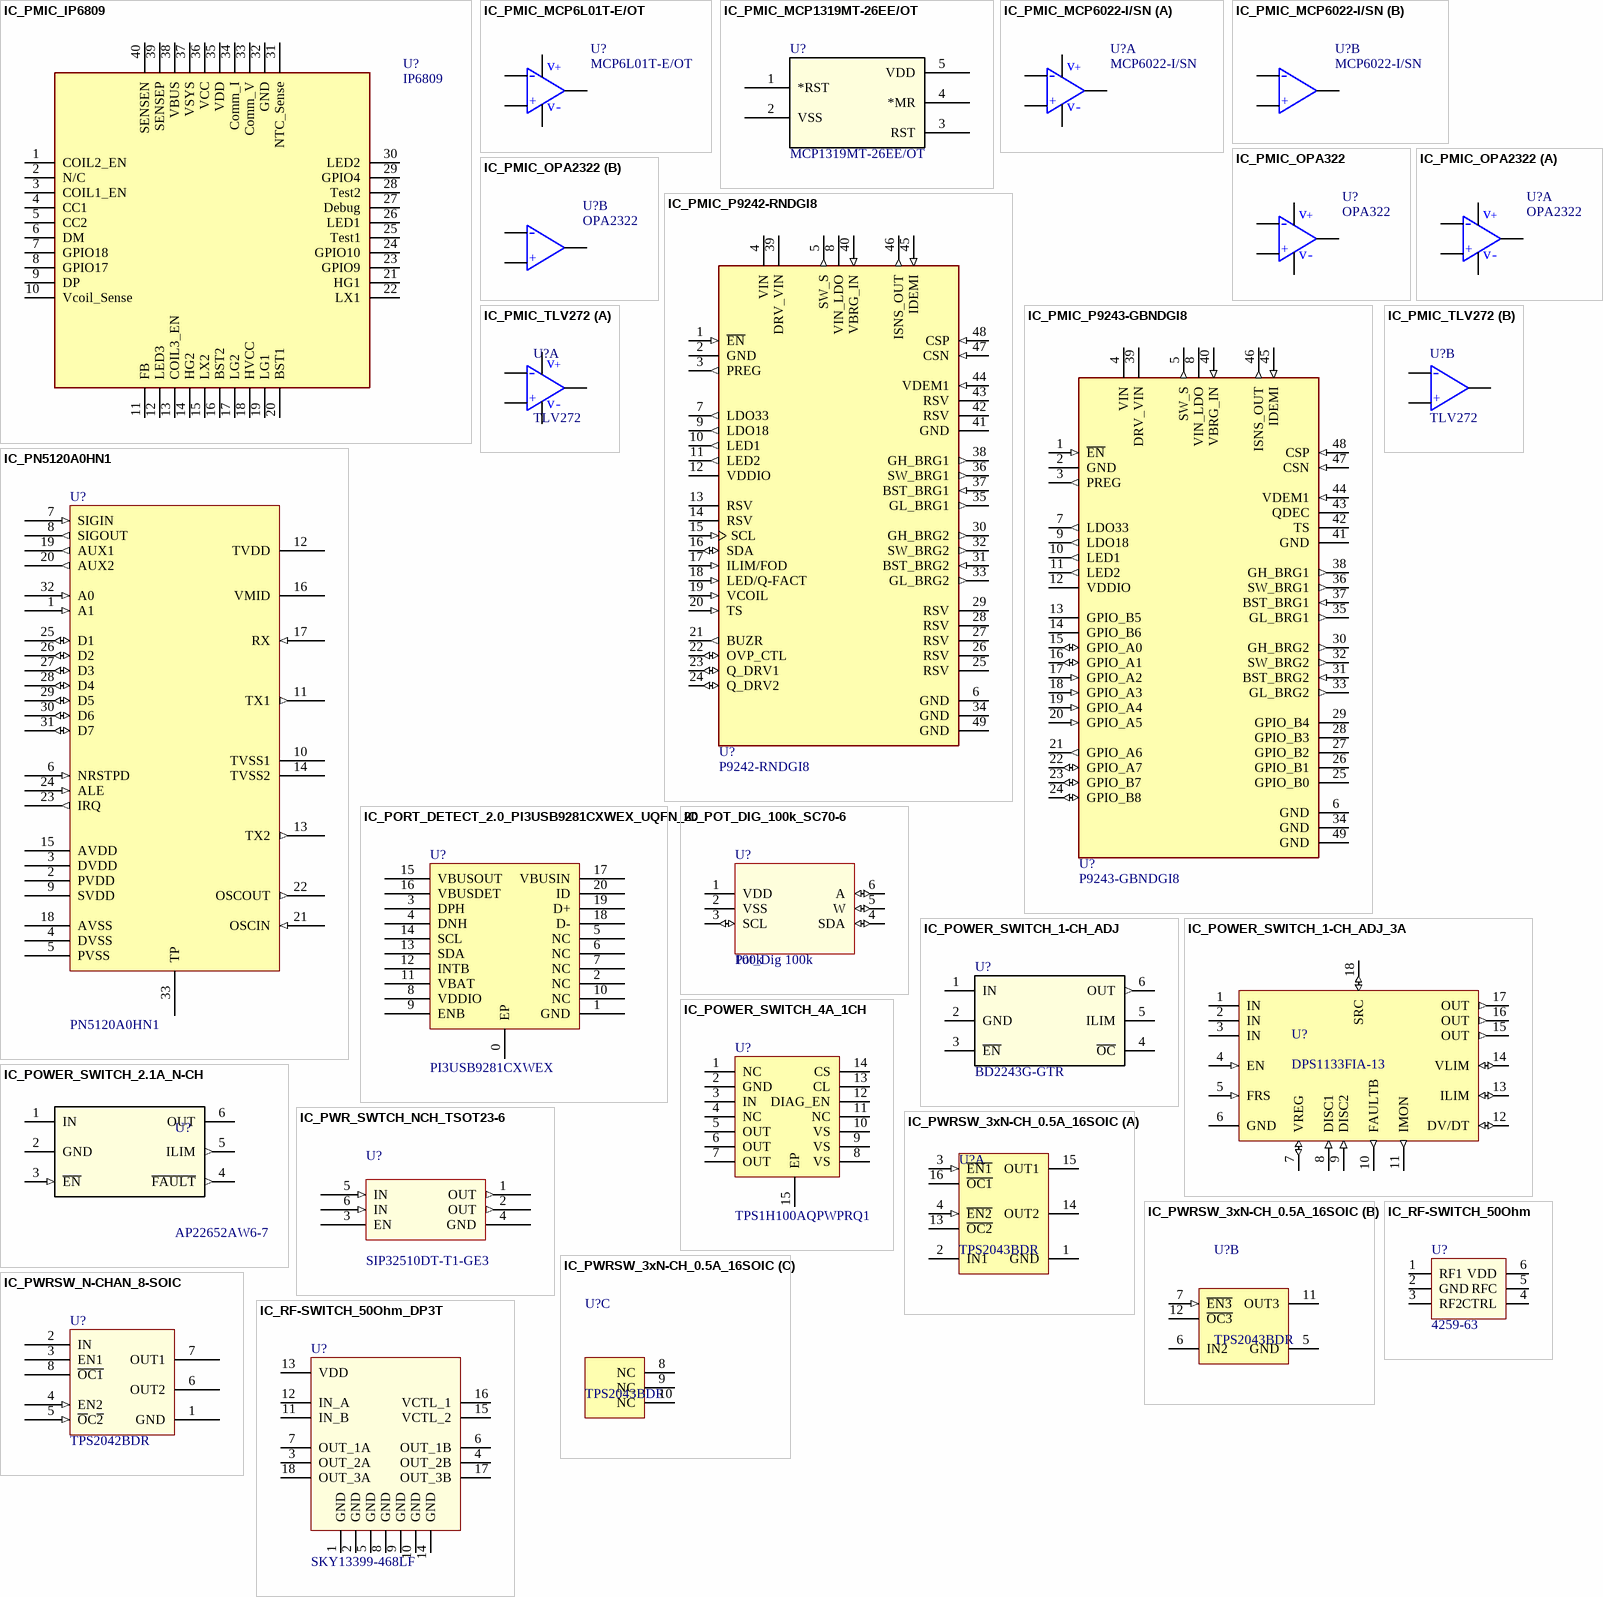
[diagram p6: symbols IC_PMIC_IP6809 to IC_RF-SWITCH_50Ohm_DP3T]

## IC_PMIC_IP6809
designator U?, comment IP6809
QFN-40 Wireless Charge-Discharge ICs ROHS; Manufacturer: INJOINIC; Manufacturer Part Number: IP6809; Supplier 1: LCSC; Supplier Part Number 1: C2927854; Reel Stock: N/A; Last modified by: J.Jaramillo; Last modified date: 20240310; ComponentLink1Description: LCSC; ComponentLink1URL: https://lcsc.com/product-detail/Wireless-Charge-Discharge-ICs_INJOINIC-IP6809_C2927864.html
footprint QFN_40_6X6MM_EP (20220422 / E.Naranjo)
pins: 1 COIL2_EN, 2 N/C, 3 COIL1_EN, 4 CC1, 5 CC2, 6 DM, 7 GPIO18, 8 GPIO17, 9 DP, 10 Vcoil_Sense, 11 FB, 12 LED3, 13 COIL3_EN, 14 HG2, 15 LX2, 16 BST2, 17 LG2, 18 HVCC, 19 LG1, 20 BST1, 21 HG1, 22 LX1, 23 GPIO9, 24 GPIO10, 25 Test1, 26 LED1, 27 Debug, 28 Test2, 29 GPIO4, 30 LED2, 31 NTC_Sense, 32 GND, 33 Comm_V, 34 Comm_I, 35 VDD, 36 VCC, 37 VSYS, 38 VBUS, 39 SENSEP, 40 SENSEN

## IC_PMIC_MCP6L01T-E/OT
designator U?, comment MCP6L01T-E/OT
IC INST AMP 1 CIRCUIT SOT23-5; Manufacturer: Microchip Technology; Manufacturer Part Number: MCP6L01T-E/OT; Supplier 1: Digi-Key; Supplier Part Number 1: MCP6L01T-E/OTCT-ND; Reel Stock: N/A; Last modified by: J.Jaramillo; Last modified date: 20240310; ComponentLink1Description: Digi-Key; ComponentLink1URL: https://www.digikey.com/product-detail/en/microchip-technology/MCP6L01T-E-OT/MCP6L01T-E-OTCT-ND/2060324
footprint SOT_753 (SOT-23-5, SC-74A / 20190225 / C-A.Serna.A)
pins: 1 OUT (power), 2 VSS (power), 3 IN+ (power), 4 IN- (power), 5 VDD (power)
text: v; +; -

## IC_PMIC_MCP1319MT-26EE/OT
designator U?, comment MCP1319MT-26EE/OT
IC SUPERVISOR 1 CHANNEL SOT23-5; Manufacturer: Microchip Technology; Manufacturer Part Number: MCP1319MT-26EE/OT; Supplier 1: Digi-Key; Supplier Part Number 1: MCP1319MT-26EE/OTCT-ND; Reel Stock: N/A; Last modified by: J.Jaramillo; Last modified date: 20240310; ComponentLink1Description: Digi-Key; ComponentLink1URL: https://www.digikey.com/en/products/detail/microchip-technology/MCP1319MT-26EE-OT/6244344?s=N4IgTCBcDaILIGEAKBGAzCgnHAKgWjADYBRYgegHkcF8A5AERAF0BfIA
footprint SOT_753 (SOT-23-5, SC-74A / 20190225 / C-A.Serna.A)
pins: 1 *RST, 2 VSS, 3 RST, 4 *MR, 5 VDD

## IC_PMIC_MCP6022-I/SN
designator U?, comment MCP6022-I/SN
IC OPAMP GP 2 CIRCUIT 8SOIC; Manufacturer: Microchip Technology; Manufacturer Part Number: MCP6022-I/SN; Supplier 1: Digi-Key; Supplier Part Number 1: MCP6022-I/SN-ND; Reel Stock: N/A; Last modified by: J.Jaramillo; Last modified date: 20240310; ComponentLink1Description: Digi-Key; ComponentLink1URL: https://www.digikey.com/en/products/detail/microchip-technology/MCP6022-I-SN/417829?s=N4IgTCBcDaILIGEAKA2ADGMBaAkgegGUA5LIgERAF0BfIA
footprint SOIC_8_3.9mm_L (/ 20190702 / J-P.Vargas.A)
part A pins: 1 OUT A (power), 2 -IN A (power), 3 +IN A (power), 4 VSS (power), 8 VDD (power)
part B pins: 5 +IN B (power), 6 -IN B (power), 7 OUT B (power)
part A text: v; +; -
part B text: -; +

## IC_PMIC_OPA322
designator U?, comment OPA322
IC OPAMP GP 1 CIRCUIT SOT23-5; Manufacturer: Texas Instruments; Manufacturer Part Number: OPA322AIDBVR; Supplier 1: Digi-Key; Supplier Part Number 1: 296-29488-1-ND; Reel Stock: N/A; Last modified by: J.Jaramillo; Last modified date: 20240310; ComponentLink1Description: Digi-Key; ComponentLink1URL: https://www.digikey.com/product-detail/en/texas-instruments/OPA322AIDBVR/296-29488-1-ND/2747454
footprint SOT_753 (SOT-23-5, SC-74A / 20190225 / C-A.Serna.A)
pins: 1 OUT (power), 2 VSS (power), 3 IN+ (power), 4 IN- (power), 5 VDD (power)
text: v; +; -

## IC_PMIC_OPA2322
designator U?, comment OPA2322
IC OPAMP GP 2 CIRCUIT 8SOIC; Manufacturer: Texas Instruments; Manufacturer Part Number: OPA2322AIDR; Supplier 1: Digi-Key; Supplier Part Number 1: 296-29893-1-ND; Reel Stock: N/A; Last modified by: J.Jaramillo; Last modified date: 20240310; ComponentLink1Description: Digi-Key; ComponentLink1URL: https://www.digikey.com/product-detail/en/texas-instruments/OPA2322AIDR/296-29893-1-ND/2782623
footprint SOIC_8_3.9mm_L (/ 20190702 / J-P.Vargas.A)
part A pins: 1 OUT A (power), 2 -IN A (power), 3 +IN A (power), 4 VSS (power), 8 VDD (power)
part B pins: 5 +IN B (power), 6 -IN B (power), 7 OUT B (power)
part A text: v; +; -
part B text: -; +

## IC_PMIC_P9242-RNDGI8
designator U?, comment P9242-RNDGI8
Wireless Charging ICs WPC 1.2.2 Wireless Transmitter 15W; Manufacturer: Renesas Electronics America Inc; Manufacturer Part Number: P9242-RNDGI8; Supplier 1: Digi-Key; Supplier Part Number 1: P9242-RNDGI8-ND; Reel Stock: N/A; Last modified by: J.Jaramillo; Last modified date: 20240310; ComponentLink1Description: Mouser; ComponentLink1URL: https://www.mouser.com/ProductDetail/Renesas-IDT/P9242-RNDGI8?qs=1JqqoYsYnNfXzoqkRt86HA%3D%3D; ComponentLink2Description: Digi-Key; ComponentLink2URL: https://www.digikey.com/en/products/detail/renesas-electronics-america-inc/P9242-RNDGI8/8575824?s=N4IgTCBcDaIAoE4wBYwFoBKA5AIgcQEkAOEAXQF8g
footprint VFQGN_48_6X6MM_EP (20220422 / E.Naranjo)
pins: 1 ~{EN} (in), 2 GND (power), 3 PREG (out), 4 VIN (power), 5 SW_S (out), 6 GND (power), 7 LDO33 (out), 8 VIN_LDO (power), 9 LDO18 (out), 10 LED1 (out), 11 LED2 (out), 12 VDDIO (power), 13 RSV, 14 RSV, 15 SCL (in), 16 SDA (io), 17 ILIM/FOD (in), 18 LED/Q-FACT (in), 19 VCOIL (in), 20 TS (in), 21 BUZR (out), 22 OVP_CTL (io), 23 Q_DRV1 (io), 24 Q_DRV2 (io), 25 RSV, 26 RSV, 27 RSV, 28 RSV, 29 RSV, 30 GH_BRG2 (out), 31 BST_BRG2 (in), 32 SW_BRG2 (out), 33 GL_BRG2 (out), 34 GND (power), 35 GL_BRG1 (out), 36 SW_BRG1 (out), 37 BST_BRG1 (in), 38 GH_BRG1 (out), 39 DRV_VIN (power), 40 VBRG_IN (in), 41 GND (power), 42 RSV, 43 RSV, 44 VDEM1 (in), 45 IDEMI (in), 46 ISNS_OUT (out), 47 CSN (in), 48 CSP (in), 49 GND (power)

## IC_PMIC_P9243-GBNDGI8
designator U?, comment P9243-GBNDGI8
IC TRANSMITTER 48VFQFPN; Manufacturer: Renesas Electronics America Inc; Manufacturer Part Number: P9243-GBNDGI8; Supplier 1: Digi-Key; Supplier Part Number 1: 800-P9243-GBNDGI8TR-ND; Reel Stock: N/A; Last modified by: J.Jaramillo; Last modified date: 20240310; ComponentLink1Description: Digi-Key; ComponentLink1URL: https://www.digikey.com/en/products/detail/renesas-electronics-america-inc/P9243-GBNDGI8/12397145
footprint VFQGN_48_6X6MM_EP (20220422 / E.Naranjo)
pins: 1 ~{EN} (in), 2 GND (power), 3 PREG (out), 4 VIN (power), 5 SW_S (out), 6 GND (power), 7 LDO33 (out), 8 VIN_LDO (power), 9 LDO18 (out), 10 LED1 (out), 11 LED2 (out), 12 VDDIO (power), 13 GPIO_B5, 14 GPIO_B6, 15 GPIO_A0 (io), 16 GPIO_A1 (io), 17 GPIO_A2 (in), 18 GPIO_A3 (in), 19 GPIO_A4 (in), 20 GPIO_A5 (in), 21 GPIO_A6 (out), 22 GPIO_A7 (io), 23 GPIO_B7 (io), 24 GPIO_B8 (io), 25 GPIO_B0, 26 GPIO_B1, 27 GPIO_B2, 28 GPIO_B3, 29 GPIO_B4, 30 GH_BRG2 (out), 31 BST_BRG2 (in), 32 SW_BRG2 (out), 33 GL_BRG2 (out), 34 GND (power), 35 GL_BRG1 (out), 36 SW_BRG1 (out), 37 BST_BRG1 (in), 38 GH_BRG1 (out), 39 DRV_VIN (power), 40 VBRG_IN (in), 41 GND (power), 42 TS, 43 QDEC, 44 VDEM1 (in), 45 IDEMI (in), 46 ISNS_OUT (out), 47 CSN (in), 48 CSP (in), 49 GND (power)

## IC_PMIC_TLV272
designator U?, comment TLV272
IC CMOS 2 CIRCUIT 8VSSOP; Manufacturer: Texas Instruments; Manufacturer Part Number: TLV272CDGKR; Supplier 1: Digi-Key; Supplier Part Number 1: 296-26805-1-ND; Reel Stock: N/A; Last modified by: J.Jaramillo; Last modified date: 20240310; ComponentLink1Description: Digi-Key; ComponentLink1URL: https://www.digikey.com/product-detail/en/texas-instruments/TLV272CDGKR/296-26805-1-ND/2255178
footprint MSOP-8_L_3.0MM (8-VSSOP, 8-TSSOP /  20191119/J-P.Vargas.A)
part A pins: 1 OUT A (power), 2 -IN A (power), 3 +IN A (power), 4 VSS (power), 8 VDD (power)
part B pins: 5 +IN B (power), 6 -IN B (power), 7 OUT B (power)
part A text: v; +; -
part B text: -; +

## IC_PN5120A0HN1
designator U?, comment PN5120A0HN1
IC RFID RDR/TRAN 13.56MZ 32HVQFN; Manufacturer: NXP USA Inc.; Manufacturer Part Number: PN5120A0HN1/C1,151; Supplier 1: Digi-Key; Supplier Part Number 1: 568-8610-ND; Reel Stock: N/A; Last modified by: J.Jaramillo; Last modified date: 20240310; ComponentLink1Description: Digi-Key; ComponentLink1URL: https://www.digikey.com/products/en?keywords=568-8610-ND
footprint HVQFN_32_5x5mm (SOT617/20190828/M-X.Arias)
pins: 1 A1 (in), 2 PVDD (power), 3 DVDD (power), 4 DVSS (power), 5 PVSS (power), 6 NRSTPD (in), 7 SIGIN (in), 8 SIGOUT (out), 9 SVDD (power), 10 TVSS1 (power), 11 TX1 (out), 12 TVDD (power), 13 TX2 (out), 14 TVSS2 (power), 15 AVDD (power), 16 VMID (power), 17 RX (in), 18 AVSS (power), 19 AUX1 (out), 20 AUX2 (out), 21 OSCIN (in), 22 OSCOUT (out), 23 IRQ (out), 24 ALE (in), 25 D1 (io), 26 D2 (io), 27 D3 (io), 28 D4 (io), 29 D5 (io), 30 D6 (io), 31 D7 (io), 32 A0 (in), 33 TP (power)

## IC_PORT_DETECT_2.0_PI3USB9281CXWEX_UQFN_20
designator U?, comment PI3USB9281CXWEX
IC USB 2.0 PORT DETECT 20UQFN; Manufacturer: Diodes Incorporated; Manufacturer Part Number: PI3USB9281CXWEX; Supplier 1: Digi-Key; Supplier Part Number 1: PI3USB9281CXWEXDICT-ND; Reel Stock: N/A; Last modified by: J.Jaramillo; Last modified date: 20240310; ComponentLink1Description: Digi-Key; ComponentLink1URL: https://www.digikey.com/en/products/detail/diodes-incorporated/PI3USB9281CXWEX/6237820?s=N4IgTCBcDaIAoEkDMBVAygIQJxgBwEYBhADQHUBRYgEQUIBUBaAOSpAF0BfIA
footprint UQFN-20_EP_3x4MM
pins: 0 EP, 1 GND, 2 NC, 3 DPH, 4 DNH, 5 NC, 6 NC, 7 NC, 8 VDDIO, 9 ENB, 10 NC, 11 VBAT, 12 INTB, 13 SDA, 14 SCL, 15 VBUSOUT, 16 VBUSDET, 17 VBUSIN, 18 D-, 19 D+, 20 ID

## IC_POT_DIG_100k_SC70-6
designator U?, comment Pot_Dig 100k  value 100k
IC DGT POT 100KOHM 128TAP SC70-6; Manufacturer: Microchip Technology; Manufacturer Part Number: MCP40D18T-104E/LT; Supplier 1: Digi-Key; Supplier Part Number 1: MCP40D18T-104E/LTCT-ND; Reel Stock: N/A; Last modified by: J.Jaramillo; Last modified date: 20240310; ComponentLink1Description: Digi-Key; ComponentLink1URL: https://www.digikey.com/en/products/detail/microchip-technology/MCP40D18T-104E-LT/2163924
footprint SC70-6 (TSSOP6 SC-88 SOT-363 / 20220519 / E.Naranjo)
pins: 1 VDD (power), 2 VSS (power), 3 SCL (io), 4 SDA (io), 5 W (io), 6 A (io)

## IC_POWER_SWITCH_1-CH_ADJ
designator U?, comment BD2243G-GTR
SOT-23-6 Power Distribution Switches ROHS; Manufacturer: ROHM Semicon; Manufacturer Part Number: BD2243G-GTR; Supplier 1: LCSC; Supplier Part Number 1: C84988; Reel Stock: N/A; Last modified by: J.Jaramillo; Last modified date: 20240310; ComponentLink1Description: LCSC; ComponentLink1URL: https://lcsc.com/product-detail/span-style-background-color-ff0-Power-span-Distribution-Switches_ROHM-Semicon-BD2243G-GTR_C84988.html
footprint SSOP_6_2.8X2.9MM (20220331 / A-F. Romo)
pins: 1 IN, 2 GND, 3 ~{EN}, 4 ~{OC}, 5 ILIM, 6 OUT (out)

## IC_POWER_SWITCH_1-CH_ADJ_3A
designator U?, comment DPS1133FIA-13
IC PWR SWITCH 1:1 V-QFN4040-17; Manufacturer: Diodes Incorporated; Manufacturer Part Number: DPS1133FIA-13; Supplier 1: Digi-Key; Supplier Part Number 1: 31-DPS1133FIA-13CT-ND; Reel Stock: N/A; Last modified by: J.Jaramillo; Last modified date: 20240310; ComponentLink1Description: New link; ComponentLink1URL: https://www.digikey.com/en/products/detail/diodes-incorporated/DPS1133FIA-13/7069731
footprint V-QFN4040-17 (20230804/J-A.Sepulveda)
pins: 1 IN (power), 2 IN (power), 3 IN (power), 4 EN (in), 5 FRS (in), 6 GND, 7 VREG (io), 8 DISC1 (in), 9 DISC2 (in), 10 FAULTB (out), 11 IMON (out), 12 DV/DT (io), 13 ILIM (io), 14 VLIM (io), 15 OUT (out), 16 OUT (out), 17 OUT (out), 18 SRC (io)

## IC_POWER_SWITCH_2.1A_N-CH
designator U?, comment AP22652AW6-7
LOAD SWITCH,SOT26,T&R,3K; Manufacturer: Diodes Incorporated; Manufacturer Part Number: AP22652AW6-7; Supplier 1: Digi-key; Supplier Part Number 1: 31-AP22652AW6-7CT-ND; Reel Stock: N/A; Last modified by: J.Jaramillo; Last modified date: 20240310; ComponentLink1Description: Digi-key; ComponentLink1URL: https://www.digikey.com/en/products/detail/diodes-incorporated/AP22652AW6-7/12728380?s=N4IgTCBcDaIMwEYC0BBACmMA2ArGFA6lkgOwDCAKkgHIAiIAugL5A
footprint SOT_23-6_3X2.90MM (/20220901/F-A.Ospina)
pins: 1 IN (power), 2 GND, 3 ~{EN} (in), 4 ~{FAULT} (out), 5 ILIM (out), 6 OUT (power)

## IC_POWER_SWITCH_4A_1CH
designator U?, comment TPS1H100AQPWPRQ1
IC LOAD SW HGH SIDE 14HTSSOP; Manufacturer: Texas Instruments; Manufacturer Part Number: TPS1H100AQPWPRQ1; Supplier 1: Digi-Key; Supplier Part Number 1: 296-42052-1-ND; Reel Stock: N/A; Last modified by: J.Jaramillo; Last modified date: 20240310; ComponentLink1Description: Digi-Key; ComponentLink1URL: https://www.digikey.com/product-detail/en/texas-instruments/TPS1H100AQPWPRQ1/296-42052-1-ND/5235999
footprint TSSOP_14_EP_4X4MM (HTSSOP_14/20190404/J-P.Vargas.A)
pins: 1 NC, 2 GND, 3 IN, 4 NC, 5 OUT, 6 OUT, 7 OUT, 8 VS, 9 VS, 10 VS, 11 NC, 12 DIAG_EN, 13 CL, 14 CS, 15 EP

## IC_PWR_SWTCH_NCH_TSOT23-6
designator U?, comment SIP32510DT-T1-GE3
IC PWR SWTCH N-CHAN 1:1 TSOT23-6; Manufacturer: Vishay Siliconix; Manufacturer Part Number: SIP32510DT-T1-GE3; Supplier 1: Digi-Key; Supplier Part Number 1: SIP32510DT-T1-GE3CT-ND; Reel Stock: N/A; Last modified by: J.Jaramillo; Last modified date: 20240310; ComponentLink1Description: Digi-Key; ComponentLink1URL: https://www.digikey.com/en/products/detail/vishay-siliconix/SIP32510DT-T1-GE3/4496335
footprint SOT_23_6 (/ 20190225 / C-A.Serna.A)
pins: 1 OUT (out), 2 OUT (out), 3 EN, 4 GND, 5 IN (in), 6 IN (in)

## IC_PWRSW_3xN-CH_0.5A_16SOIC
designator U?, comment TPS2043BDR
IC PWR SWTCH N-CH 1:2/1:1 16SOIC; Manufacturer: Texas Instruments; Manufacturer Part Number: TPS2043BDR; Supplier 1: Digi-Key; Supplier Part Number 1: 296-48724-1-ND; Reel Stock: N/A; Last modified by: J.Jaramillo; Last modified date: 20240310; ComponentLink1Description: Digi-Key; ComponentLink1URL: https://www.digikey.com/en/products/detail/texas-instruments/TPS2043BDR/1670769
footprint SOIC_16_3.9MM (/20201210/M-C.Calderon)
part A pins: 1 GND (power) "Ground", 2 IN1 (power) "Input voltage for OUT1 and OUT2", 3 ~{EN1} (in) "Enable input, logic high turns on power switch IN1-OUT1", 4 ~{EN2} (in) "Enable input, logic high turns on power switch IN1-OUT2", 13 ~{OC2} (oc) "Overcurrent, open-drain output, active low, IN1-OUT2", 14 OUT2 (power) "Power-switch output, IN1-OUT2", 15 OUT1 (power) "Power-switch output, IN1-OUT1", 16 ~{OC1} (oc) "Overcurrent, open-drain output, active low, IN1-OUT1"
part B pins: 5 GND (power) "Ground", 6 IN2 (power) "Input voltage for OUT3", 7 ~{EN3} (in) "Enable input, logic high turns on power switch IN2-OUT3", 11 OUT3 (power) "Power-switch output, IN2-OUT3", 12 ~{OC3} (oc) "Overcurrent, open-drain output, active low, IN2-OUT3"
part C pins: 8 NC "No connection", 9 NC "No connection", 10 NC "No connection"

## IC_PWRSW_N-CHAN_8-SOIC
designator U?, comment TPS2042BDR
IC PWR SWITCH N-CHAN 1:2 8SOIC; Manufacturer: Texas Instruments; Manufacturer Part Number: TPS2042BDR; Supplier 1: Digi-Key; Supplier Part Number 1: 296-17002-1-ND; Reel Stock: N/A; Last modified by: J.Jaramillo; Last modified date: 20240310; ComponentLink1Description: Digi-key; ComponentLink1URL: https://www.digikey.com/products/en?keywords=296-17002-1-ND
footprint SOIC_8_3.9mm (/ 20190225 / C-A.Serna.A)
pins: 1 GND, 2 IN, 3 EN1, 4 EN2 (in), 5 ~{O}C~{2} (in), 6 OUT2, 7 OUT1, 8 ~{OC1}

## IC_RF-SWITCH_50Ohm
designator U?, comment 4259-63
IC RF SWITCH SPDT 50 OHM SC70-6; Manufacturer: pSemi; Reel Stock: N/A; Last modified by: J.Jaramillo; Last modified date: 20240310; ComponentLink1Description: Digi-Key; ComponentLink1URL: https://www.digikey.tw/products/en?keywords=1046-1011-1-ND; Supplier 1: Digi-Key; Manufacturer Part Number: 4259-63; Supplier Part Number 1: 1046-1011-1-ND
footprint SOT_ 363 (TSSOP-6, SC-88, SOT-363 / 20190225 / C-A.Serna.A)
pins: 1 RF1 (power), 2 GND (power), 3 RF2 (power), 4 CTRL (power), 5 RFC (power), 6 VDD (power)

## IC_RF-SWITCH_50Ohm_DP3T
designator U?, comment SKY13399-468LF
IC RF SWITCH DP3T 2.7GHZ 18QFN; Manufacturer: Skyworks Solutions Inc.; Manufacturer Part Number: SKY13399-468LF; Supplier 1: Digi-Key; Supplier Part Number 1: 863-1579-1-ND; Reel Stock: N/A; Last modified by: J.Jaramillo; Last modified date: 20240310; ComponentLink1Description: Digi-Key; ComponentLink1URL: https://www.digikey.com/product-detail/en/skyworks-solutions-inc/SKY13399-468LF/863-1579-1-ND/5214168
footprint 18-QFN_EP_2X2MM (18-XFQFN_EP/20210809/V-A.PATINO)
pins: 1 GND, 2 GND, 3 OUT_2A, 4 OUT_2B, 5 GND, 6 OUT_1B, 7 OUT_1A, 8 GND, 9 GND, 10 GND, 11 IN_B, 12 IN_A, 13 VDD, 14 GND, 15 VCTL_2, 16 VCTL_1, 17 OUT_3B, 18 OUT_3A

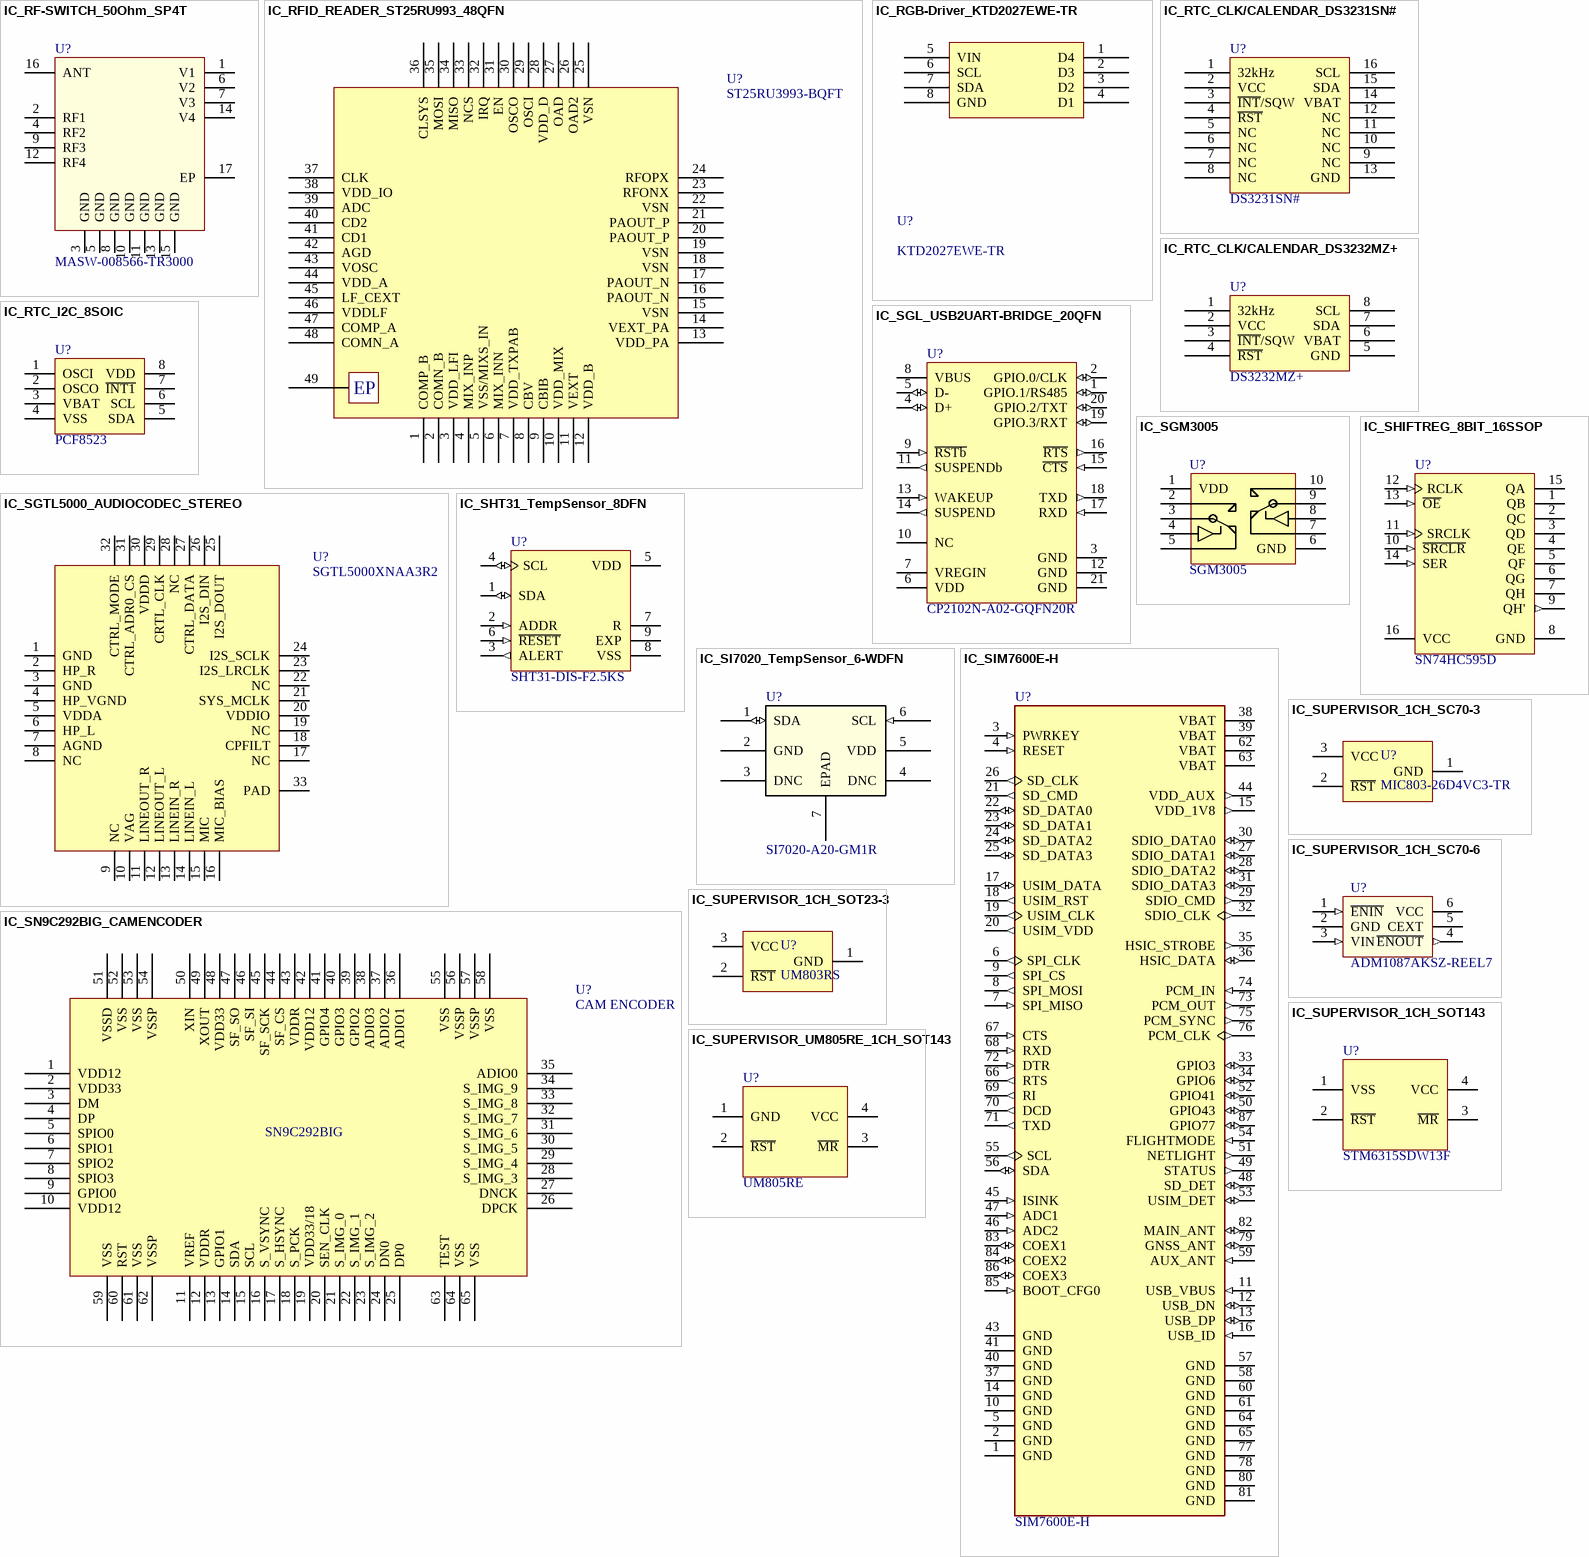
[diagram p7: symbols IC_RF-SWITCH_50Ohm_SP4T to IC_SUPERVISOR_UM805RE_1CH_SOT143]

## IC_RF-SWITCH_50Ohm_SP4T
designator U?, comment MASW-008566-TR3000
IC RF SWITCH SP4T 3GHZ 16QFN; Manufacturer: M/A-Com Technology Solutions; Manufacturer Part Number: MASW-008566-TR3000; Supplier 1: Digi-Key; Supplier Part Number 1: 1465-1364-1-ND; Reel Stock: N/A; Last modified by: J.Jaramillo; Last modified date: 20240310; ComponentLink1Description: Digi-Key; ComponentLink1URL: https://www.digikey.com/product-detail/en/m-a-com-technology-solutions/MASW-008566-TR3000/1465-1364-1-ND/4430061
footprint VQFN_16_EP_4X4MM (16-VQFN EP / 20210809 / N-A.Potosi)
pins: 1 V1, 2 RF1, 3 GND, 4 RF2, 5 GND, 6 V2, 7 V3, 8 GND, 9 RF3, 10 GND, 11 GND, 12 RF4, 13 GND, 14 V4, 15 GND, 16 ANT, 17 EP